# EAGLE library part 74*604 (library 7400)
Octal 2-input MULTIPLEXED LATCH
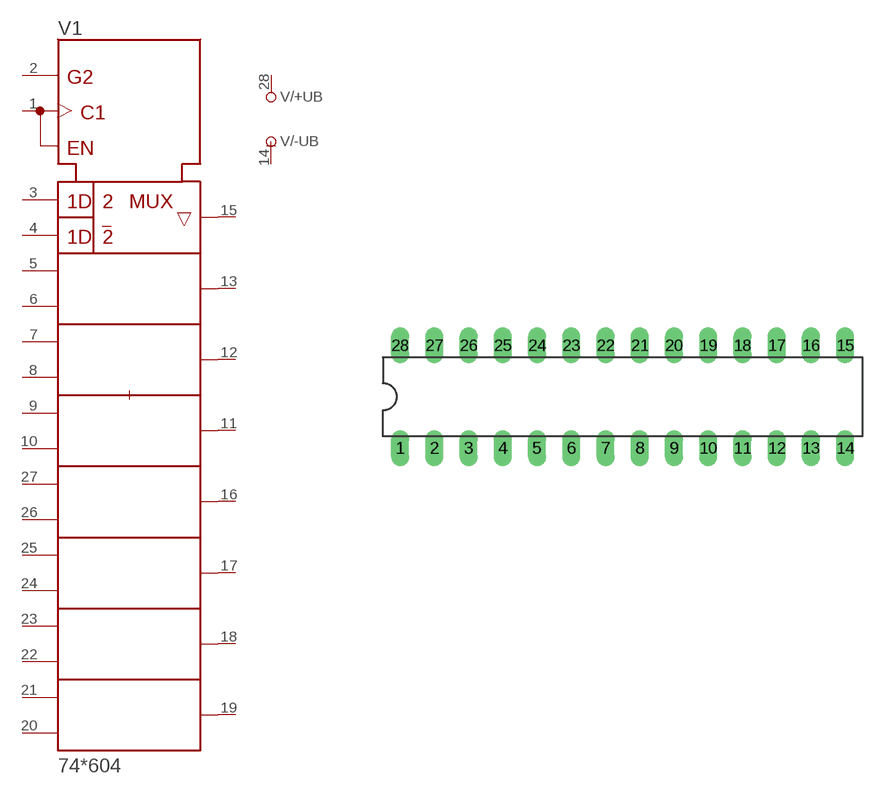
[diagram p127: symbol with the pads of DIL28-3; footprint DIL28-3]

Designator prefix V; gates /+UB=+UB /-UB=-UB 1=604

## 74604N  [DIL28-3]
1  1:CLK  in
2  1:SEL_A/!B  in
3  1:A1  in
4  1:B1  in
5  1:A2  in
6  1:B2  in
7  1:A3  in
8  1:B3  in
9  1:A4  in
10  1:B4  in
11  1:Y4  hiz
12  1:Y3  hiz
13  1:Y2  hiz
14  /-UB:-UB  pwr
15  1:Y1  hiz
16  1:Y5  hiz
17  1:Y6  hiz
18  1:Y7  hiz
19  1:Y8  hiz
20  1:B8  in
21  1:A8  in
22  1:B7  in
23  1:A7  in
24  1:B6  in
25  1:A6  in
26  1:B5  in
27  1:A5  in
28  /+UB:+UB  pwr

## Footprint DIL28-3 (pad centres in mm)
Dual In Line Package Small
drill 0.813 long: 1 -16.51,-3.81; 2 -13.97,-3.81; 3 -11.43,-3.81; 4 -8.89,-3.81; 5 -6.35,-3.81; 6 -3.81,-3.81; 7 -1.27,-3.81; 8 1.27,-3.81; 9 3.81,-3.81; 10 6.35,-3.81; 11 8.89,-3.81; 12 11.43,-3.81; 13 13.97,-3.81; 14 16.51,-3.81; 15 16.51,3.81; 16 13.97,3.81; 17 11.43,3.81; 18 8.89,3.81; 19 6.35,3.81; 20 3.81,3.81; 21 1.27,3.81; 22 -1.27,3.81; 23 -3.81,3.81; 24 -6.35,3.81; 25 -8.89,3.81; 26 -11.43,3.81; 27 -13.97,3.81; 28 -16.51,3.81